# Altium footprint library V8PAL45-M3.PcbLib: 2 footprints
Each footprint in its own frame and in the unit in brackets; x right, y up, seen from the top. Pads: shape width x height; smd on the part's side, far side on the other; paste and mask are expansions set on the pad; w line width, h text height; cw(c..) or ccw(c..) is an arc to the next point about the centre after c.
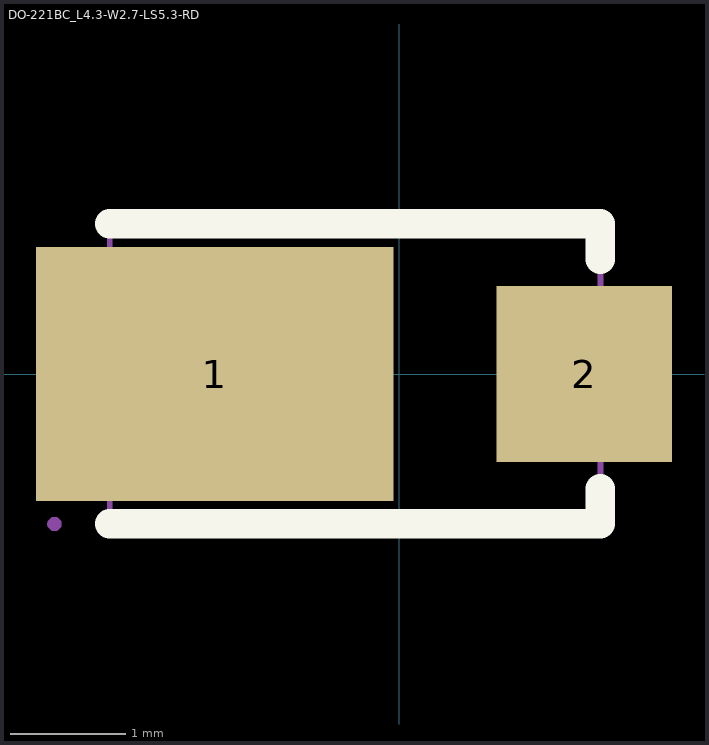
[diagram p0: the footprints below, top view; thin cyan lines are the x and y axes]

## DO-221BC_L4.3-W2.7-LS5.3-RD [mm]
pads (2):
  rect 3.1x2.2 smd: 1(-1.6,0)
  rect 1.52x1.524 smd: 2(1.6,0)
Top Overlay:
  lines w0.254: -2.511,-1.297 1.739,-1.297 1.739,-0.993 ; -2.511,1.303 1.739,1.303 1.739,0.993
Mechanical 6:
  region: 1.74,0.68 1.74,-0.62 1.54,-0.62 1.54,0.68 1.58,0.68
  region: 2.29,-0.07 0.99,-0.07 0.99,0.13 2.29,0.13 2.29,0.09
  region: -1.61,-0.07 -2.91,-0.07 -2.91,0.13 -1.61,0.13 -1.61,0.09
Mechanical 15:
  region: -2.99,0.65 -2.99,-0.65 -2.291,-0.65 -2.291,-0.95 -0.191,-0.95 -0.191,0.95 -2.291,0.95 -2.291,0.65
  region: 2.22,-0.675 0.87,-0.675 0.87,0.675 2.22,0.675
  region: -2.93,-1.3 -2.931,-1.276 -2.965,-1.242 -3.014,-1.242 -3.049,-1.276 -3.05,-1.3 -3.049,-1.324 -3.014,-1.358 -2.965,-1.358 -2.931,-1.324
  lines w0.051: -2.51,-1.3 1.74,-1.3 1.74,1.3 -2.51,1.3 -2.51,-1.3
3D body "V8PAL45-M3_I.STEP": height 1, standoff 0, extent -3.103,-1.3 2.097,1.3

## PCBComponent_1 [mm]